# EAGLE library part ADM3066E (library parts)
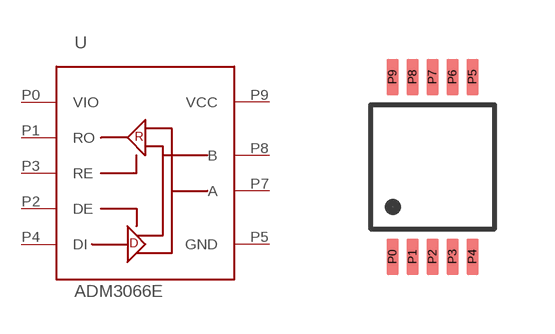
[diagram p5: symbol with the pads of MSOP-10; footprint MSOP-10]

Designator prefix -

## ADM3066E  [MSOP-10]
P0  VIO
P1  RO
P2  DE
P3  RE
P4  DI
P5  GND
P7  A
P8  B
P9  VCC

## Footprint MSOP-10 (pad centres in mm)
smd 0.3 x 0.9: P0 -1,-2.25; P1 -0.5,-2.25; P2 0,-2.25; P3 0.5,-2.25; P4 1,-2.25; P5 1,2.25; P6 0.5,2.25; P7 0,2.25; P8 -0.5,2.25; P9 -1,2.25